# EAGLE library part LMR14010A (library ICs)
LMR14010A 4-V to 40-V, 1-A Step-Down Converter With High Efficiency Eco-mode
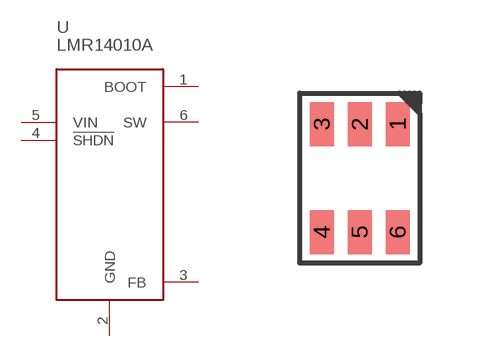
[diagram p201: symbol with the pads of SOT23-6; footprint SOT23-6]

Designator prefix U

## LMR14010ADDCT (DIGIKEY: 296-49072-1-ND; HEIGHT: 0.85; PRICE_PER: 2.16; VALUE: LMR14010A)  [SOT23-6]
1  BOOT
2  GND
3  FB
4  !SHDN
5  VIN
6  SW

## Footprint SOT23-6 (pad centres in mm)
smd 0.6 x 1.1: 1 0.95,1.35; 2 0,1.35; 3 -0.95,1.35; 4 -0.95,-1.35; 5 0,-1.35; 6 0.95,-1.35